# EAGLE library part OPA2192IDGKR (library IC_Linear)
36-V, Precision, Rail-to-Rail Input/Output, Low Offset Voltage, Low Input Bias Current Op Amp with e-trim™ Datasheet <http://www.ti.com/lit/ds/symlink/opa192.pdf>
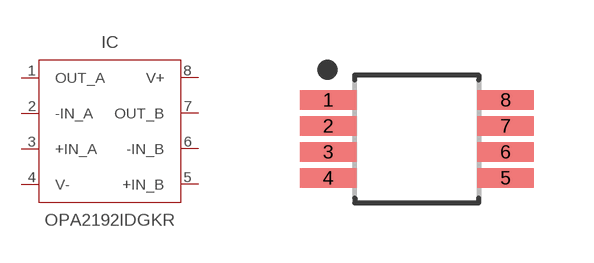
[diagram p22: symbol with the pads of SOP65P490X110-8N; footprint SOP65P490X110-8N]

Designator prefix IC

## OPA2192IDGKR_PDSO (CATEGORY: Precision Amplifiers; DESCRIPTION: Precision Amplifiers 36-V, Precision, RRIO, Low Offset Voltage, Low Input Bias Current Op Amp With e-trim 8-VSSOP -40 to 125; MANUFACTURER: Texas Instruments; MPN: OPA2192IDGKR; OPERATING_TEMP: -40 to +125 °C; PART_STATUS: Active; ROHS_COMPLIANT: RoHS3 Compliant; SERIES: OPA2192; SUB-CATEGORY: Amplifier ICs; TYPE: Low Drift Amplifier; VALUE: OPA2192)  [SOP65P490X110-8N]
1  OUT_A  out
2  -IN_A  in
3  +IN_A  in
4  V-  pwr
5  +IN_B  in
6  -IN_B  in
7  OUT_B  out
8  V+  pwr

## Footprint SOP65P490X110-8N (pad centres in mm)
8-SOP, 0.65 mm pitch, 4.90 mm span, 3.00 X 2.95 X 1.10 mm body 8-pin SOP package with 0.65 mm pitch, 4.90 mm span with body size 3.00 X 2.95 X 1.10 mm
smd 1.424 x 0.492: 1 -2.219,0.975; 2 -2.219,0.325; 3 -2.219,-0.325; 4 -2.219,-0.975; 5 2.219,-0.975; 6 2.219,-0.325; 7 2.219,0.325; 8 2.219,0.975